# Altium footprint library TZJLIB.PcbLib: 76 footprints (part 4 of 5)
Each footprint in its own frame and in the unit in brackets; x right, y up, seen from the top. Pads: shape width x height; smd on the part's side, far side on the other; paste and mask are expansions set on the pad; w line width, h text height; cw(c..) or ccw(c..) is an arc to the next point about the centre after c.
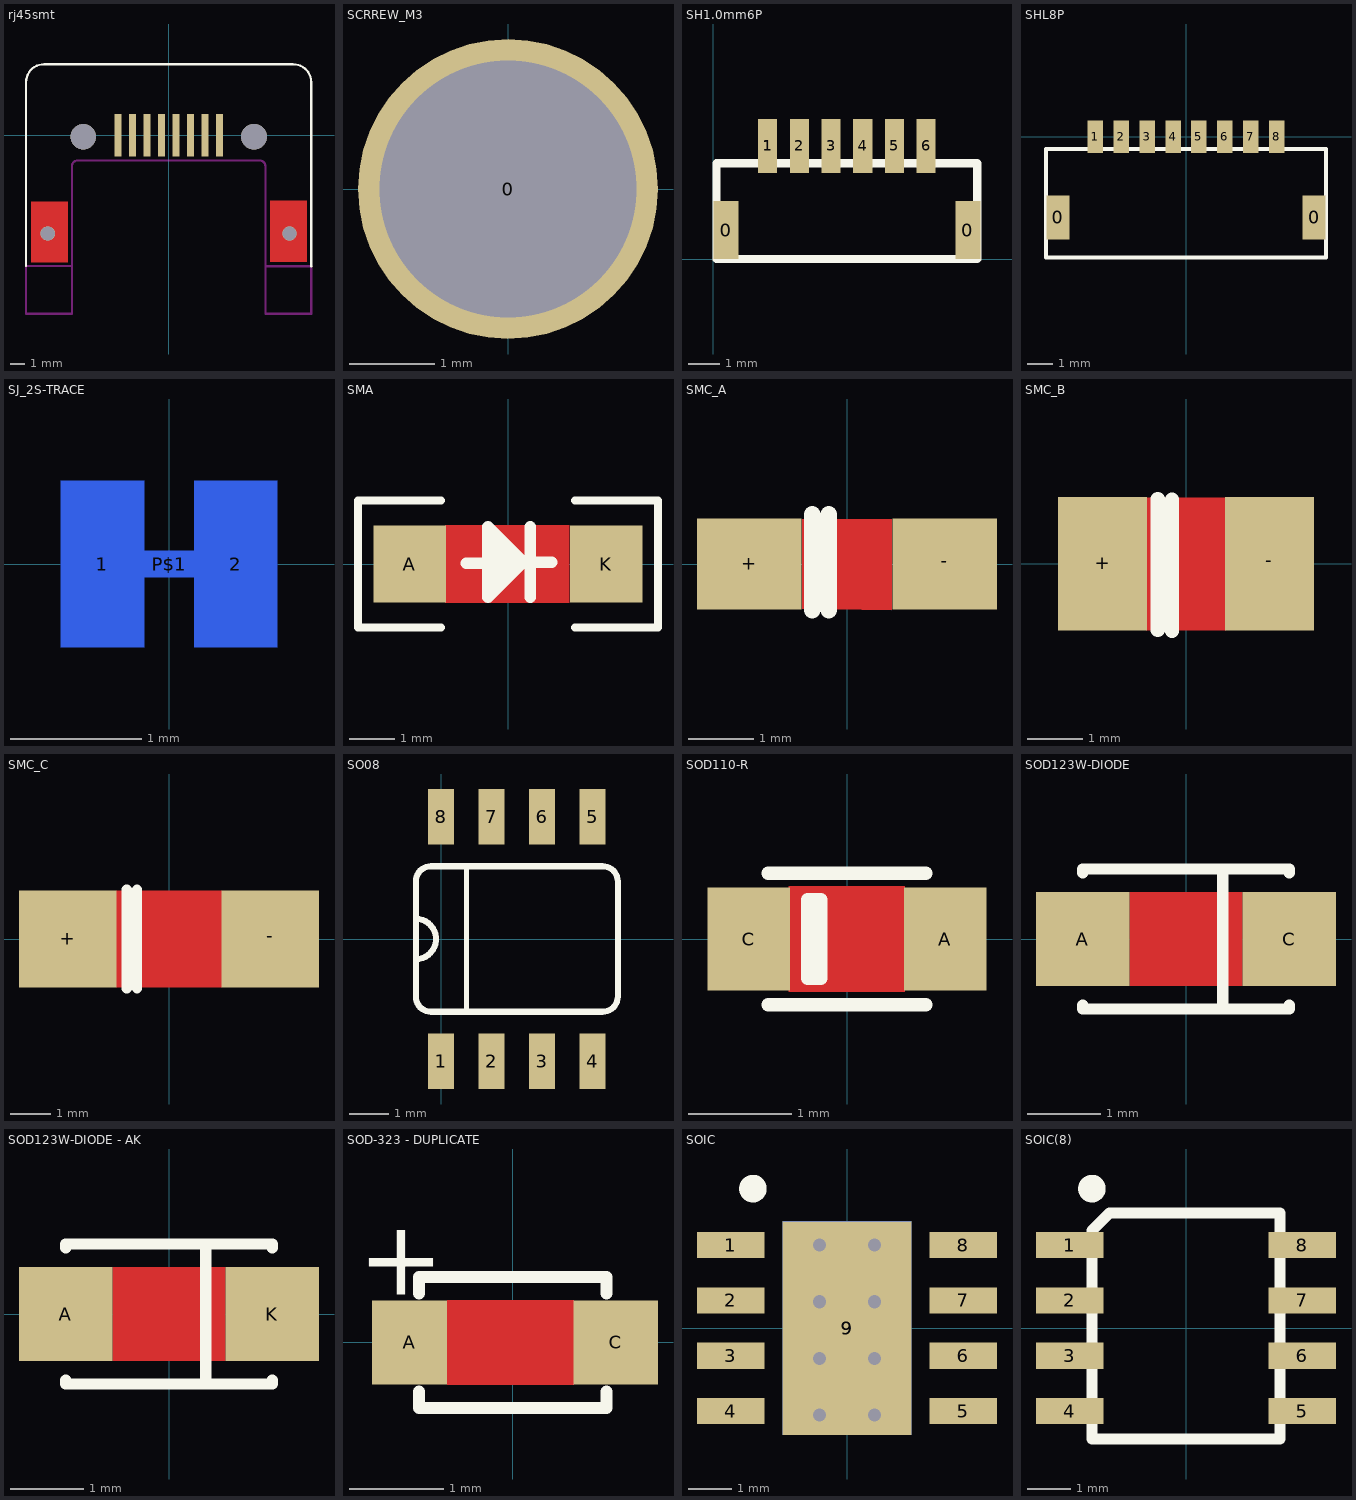
[diagram p3: the footprints below, top view; thin cyan lines are the x and y axes]

## rj45smt [mm]
pads (8):
  rect 0.5x3 smd: 1(-3.57,0) 2(-2.55,0) 3(-1.53,0) 4(-0.51,0) 5(0.51,0) 6(1.53,0) 7(2.55,0) 8(3.57,0)
via 8.5,-6.9 diameter 1 hole 1
via -8.5,-6.9 diameter 1 hole 1
via -6,-0.1 diameter 1.8 hole 1.8
via 6,-0.1 diameter 1.8 hole 1.8
Top Layer:
  region: 9.728,-8.897 9.728,-4.597 7.108,-4.597 7.108,-8.897
  region: -7.061,-8.948 -7.061,-4.648 -9.681,-4.648 -9.681,-8.948
Top Overlay:
  lines w0.152: -10.02,-9.175 -10.02,3.73 cw(c-8.75,3.73) -8.75,5 8.75,5 cw(c8.75,3.73) 10.02,3.73 10.02,-9.2
Keep-Out Layer:
  lines w0.152: -10.02,-9.175 ccw(c-10.008,-9.175) -10.008,-9.188 cw(c-10.02,-9.188) -10.02,-9.2 -10.02,-12.55 -6.8,-12.55 -6.8,-6.9 ; -10.008,-9.195 -6.805,-9.195 cw(c-6.805,-9.2) -6.8,-9.2 -6.8,-2.275 -6.8,-2.148 cw(c-6.43,-2.148) -6.43,-1.778 6.416,-1.778 cw(c6.416,-2.162) 6.8,-2.162 6.8,-2.489 ; 6.8,-9.175 ccw(c6.812,-9.175) 6.812,-9.188 cw(c6.8,-9.188) 6.8,-9.2 ; 6.8,-6.909 6.8,-12.55 10.02,-12.55 10.02,-9.195 ; 6.8,-2.289 6.8,-9.2 ; 6.812,-9.195 10.015,-9.195 cw(c10.015,-9.2) 10.02,-9.2 9.677,-9.2 ; 9.8,-9.2 6.8,-9.2

## SCRREW_M3 [mm]
height 10.058
pads (1):
  round 3.5 hole 3: 0(0,0)

## SH1.0mm6P [mm]
pads (9):
  rect 0.8x1.83 smd: 0(0.406,0.914) 0(8.04,0.914)
  rect 0.6x1.7 smd: 1(1.72,3.57) 1(1.72,3.57) 2(2.72,3.57) 3(3.72,3.57) 4(4.72,3.57) 5(5.72,3.57) 6(6.72,3.57)
Top Overlay:
  lines w0.254: 0.102,0 8.331,0 8.331,3.023 0.102,3.023 0.102,0

## SHL8P [mm]
pads (10):
  rect 0.9x1.7 smd: 0(-4.95,-3.125) 0(4.95,-3.125)
  rect 0.6x1.25 smd: 1(-3.5,0) 2(-2.5,0) 3(-1.5,0) 4(-0.5,0) 5(0.5,0) 6(1.5,0) 7(2.5,0) 8(3.5,0)
Top Overlay:
  lines w0.152: -5.41,-4.674 -5.41,-0.483 5.41,-0.483 5.41,-4.496 5.41,-4.674 -5.41,-4.674

## SJ_2S-TRACE [mil] "SJ_2S-TRACE"
pads (3):
  rect 25x50 smd far side: 1(-20,0) 2(20,0)
  rect 40x8 smd far side: P$1(0,0)

## SMA [mm]
height 1.3
pads (2):
  rect 1.6x1.7 smd: A(-2.159,0) K(2.159,0)
Top Layer:
  pour cut-out: -1.375,0.85 1.35,0.85 1.35,-0.85 -1.375,-0.85
Top Overlay:
  rectangle: -0.44,-0.206 0.186,0.319
  rectangle: -0.44,-0.432 -0.014,0.519
  lines w0.18: -1.475,-1.4 -3.3,-1.4 -3.3,1.4 -1.475,1.4 ; 1.475,-1.4 3.3,-1.4 3.3,1.4 1.475,1.4
  lines w0.254: -0.915,0.019 -0.44,0.019 ; -0.44,-0.732 -0.44,0.819 0.336,0.044 -0.44,-0.732 ; 0.486,-0.732 0.486,0.044 ; 0.485,0.819 0.485,0.043 ; 0.96,0.043 0.485,0.043

## SMC_A [mm] "SMC_A"
pads (2):
  rect 1.6x1.4 smd: +(-1.5,0) -(1.5,0)
Top Layer:
  pour cut-out: -0.686,0.686 -0.686,-0.686 0.686,-0.711 0.686,0.686
Top Overlay:
  lines w0.254: -0.533,-0.711 -0.533,0.762 ; -0.279,-0.711 -0.279,0.762

## SMC_B [mm] "SMC_B"
pads (2):
  rect 1.6x2.4 smd: +(-1.5,0) -(1.5,0)
Top Layer:
  pour cut-out: -0.711,1.194 -0.711,-1.194 0.711,-1.194 0.711,1.194
Top Overlay:
  lines w0.254: -0.508,-1.194 -0.508,1.168 ; -0.254,-1.206 -0.254,1.156

## SMC_C [mm] "SMC_C"
pads (2):
  rect 2.4x2.4 smd: +(-2.5,0) -(2.5,0)
Top Layer:
  pour cut-out: -1.295,1.194 -1.295,-1.194 1.295,-1.194 1.295,1.194
Top Overlay:
  lines w0.254: -1.041,-1.219 -1.041,1.219 ; -0.787,-1.219 -0.787,1.219

## SO08 [mil] "SO08"
pads (8):
  rect 26x55 smd: 1(0,-121) 2(50,-121) 3(100,-121) 4(150,-121) 5(150,121) 6(100,121) 7(50,121) 8(0,121)
Top Overlay:
  lines w5: 25,-70 25,50 25,70
  lines w6: -25,-20 ccw(c-25,0) -25,20 ; -25,-20 -25,20 ; -25,-20 -25,-57 ccw(c-10,-57) -10,-72 160,-72 ccw(c160,-57) 175,-57 175,57 ccw(c160,57) 160,72 -10,72 ccw(c-10,57) -25,57 -25,20

## SOD110-R [mm] "SOD110-R"
pads (2):
  rect 0.8x1 smd: A(0.95,0) C(-0.95,0)
Top Layer:
  pour cut-out: -0.564,0.508 -0.564,-0.508 0.559,-0.508 0.559,0.508
Top Overlay:
  lines w0.127: -0.762,-0.635 0.762,-0.635 ; -0.762,0.635 0.762,0.635 ; -0.381,-0.381 -0.254,-0.381 -0.254,0.381 -0.381,0.381 -0.381,-0.381

## SOD123W-DIODE [mm] "SOD123W-DIODE"
pads (2):
  rect 1.27x1.27 smd: A(-1.4,0) C(1.4,0)
Top Layer:
  pour cut-out: -0.762,0.635 -0.762,-0.635 0.762,-0.635 0.762,0.635
Top Overlay:
  lines w0.152: -1.4,-0.9 -1.4,-0.95 0.5,-0.95 ; -1.4,0.9 -1.4,0.95 0.5,0.95 ; 1.4,-0.9 1.4,-0.95 0.5,-0.95 ; 1.4,0.9 1.4,0.95 0.5,0.95 ; 0.5,-0.95 0.5,0.95

## SOD123W-DIODE - AK [mm] "SOD123W-DIODE"
pads (2):
  rect 1.27x1.27 smd: A(-1.4,0) K(1.4,0)
Top Layer:
  pour cut-out: -0.762,0.635 -0.762,-0.635 0.762,-0.635 0.762,0.635
Top Overlay:
  lines w0.152: -1.4,-0.9 -1.4,-0.95 0.5,-0.95 ; -1.4,0.9 -1.4,0.95 0.5,0.95 ; 1.4,-0.9 1.4,-0.95 0.5,-0.95 ; 1.4,0.9 1.4,0.95 0.5,0.95 ; 0.5,-0.95 0.5,0.95

## SOD-323 - DUPLICATE [mm]
pads (2):
  rect 0.8x0.9 smd: A(-1.1,0)
  rect 0.9x0.9 smd: C(1.1,0)
Top Layer:
  pour cut-out: -0.7,0.45 0.65,0.45 0.65,-0.45 -0.7,-0.45
Top Overlay:
  lines w0.13: -1,-0.524 -1,-0.7 1,-0.7 1,-0.524 ; -1,0.524 -1,0.7 1,0.7 1,0.524
  text "+" at -1.651,0.508 h0.8

## SOIC [mm]
pads (10):
  rect 1.55x0.6 smd: 1(-2.667,1.905) 2(-2.667,0.635) 3(-2.667,-0.635) 4(-2.667,-1.905) 5(2.667,-1.905) 6(2.667,-0.635) 7(2.667,0.635) 8(2.667,1.905)
  rect 2.95x4.9 smd: 9(0,0)
  rect 2.95x4.9 smd far side: 9(0,0)
via -0.635,-1.995 diameter 0.5 hole 0.3
via -0.635,-0.695 diameter 0.5 hole 0.3
via -0.635,0.605 diameter 0.5 hole 0.3
via -0.635,1.905 diameter 0.5 hole 0.3
via 0.635,-1.995 diameter 0.5 hole 0.3
via 0.635,-0.695 diameter 0.5 hole 0.3
via 0.635,0.605 diameter 0.5 hole 0.3
via 0.635,1.905 diameter 0.5 hole 0.3
Top Overlay:
  circle w0.381: c-2.159,3.2 r0.127

## SOIC(8) [mm]
pads (8):
  rect 1.55x0.6 smd: 1(-2.667,1.905) 2(-2.667,0.635) 3(-2.667,-0.635) 4(-2.667,-1.905) 5(2.667,-1.905) 6(2.667,-0.635) 7(2.667,0.635) 8(2.667,1.905)
Top Overlay:
  circle w0.381: c-2.159,3.2 r0.127
  lines w0.254: -2.159,-2.54 2.159,-2.54 2.159,2.642 -1.753,2.642 -2.159,2.235 -2.159,-2.54